# Altium schematic symbol library CL21A106KAYNNNE.SchLib: 1 symbol
Pins are listed as number, name and electrical type; pins without a type are passive.

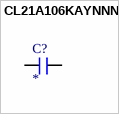
[diagram p0: symbol CL21A106KAYNNNE]

## CL21A106KAYNNNE
designator C?
10 ÂµF Â±10% 25V Ceramic Capacitor X5R 0805 (2012 Metric); MF: Samsung; MP: CL21A106KAYNNNE; SnapEDA_Link: https://www.snapeda.com/parts/CL21A106KAYNNNE/Samsung/view-part/?ref=snap; Package: SMD-2 Samsung; Value: *; Check_prices: https://www.snapeda.com/parts/CL21A106KAYNNNE/Samsung/view-part/?ref=eda
footprint CAPC2012X145N
pins: 1, 2